# Altium schematic symbol library Microcontrollers.SchLib: 7 symbols
Pins are listed as number, name and electrical type; pins without a type are passive.

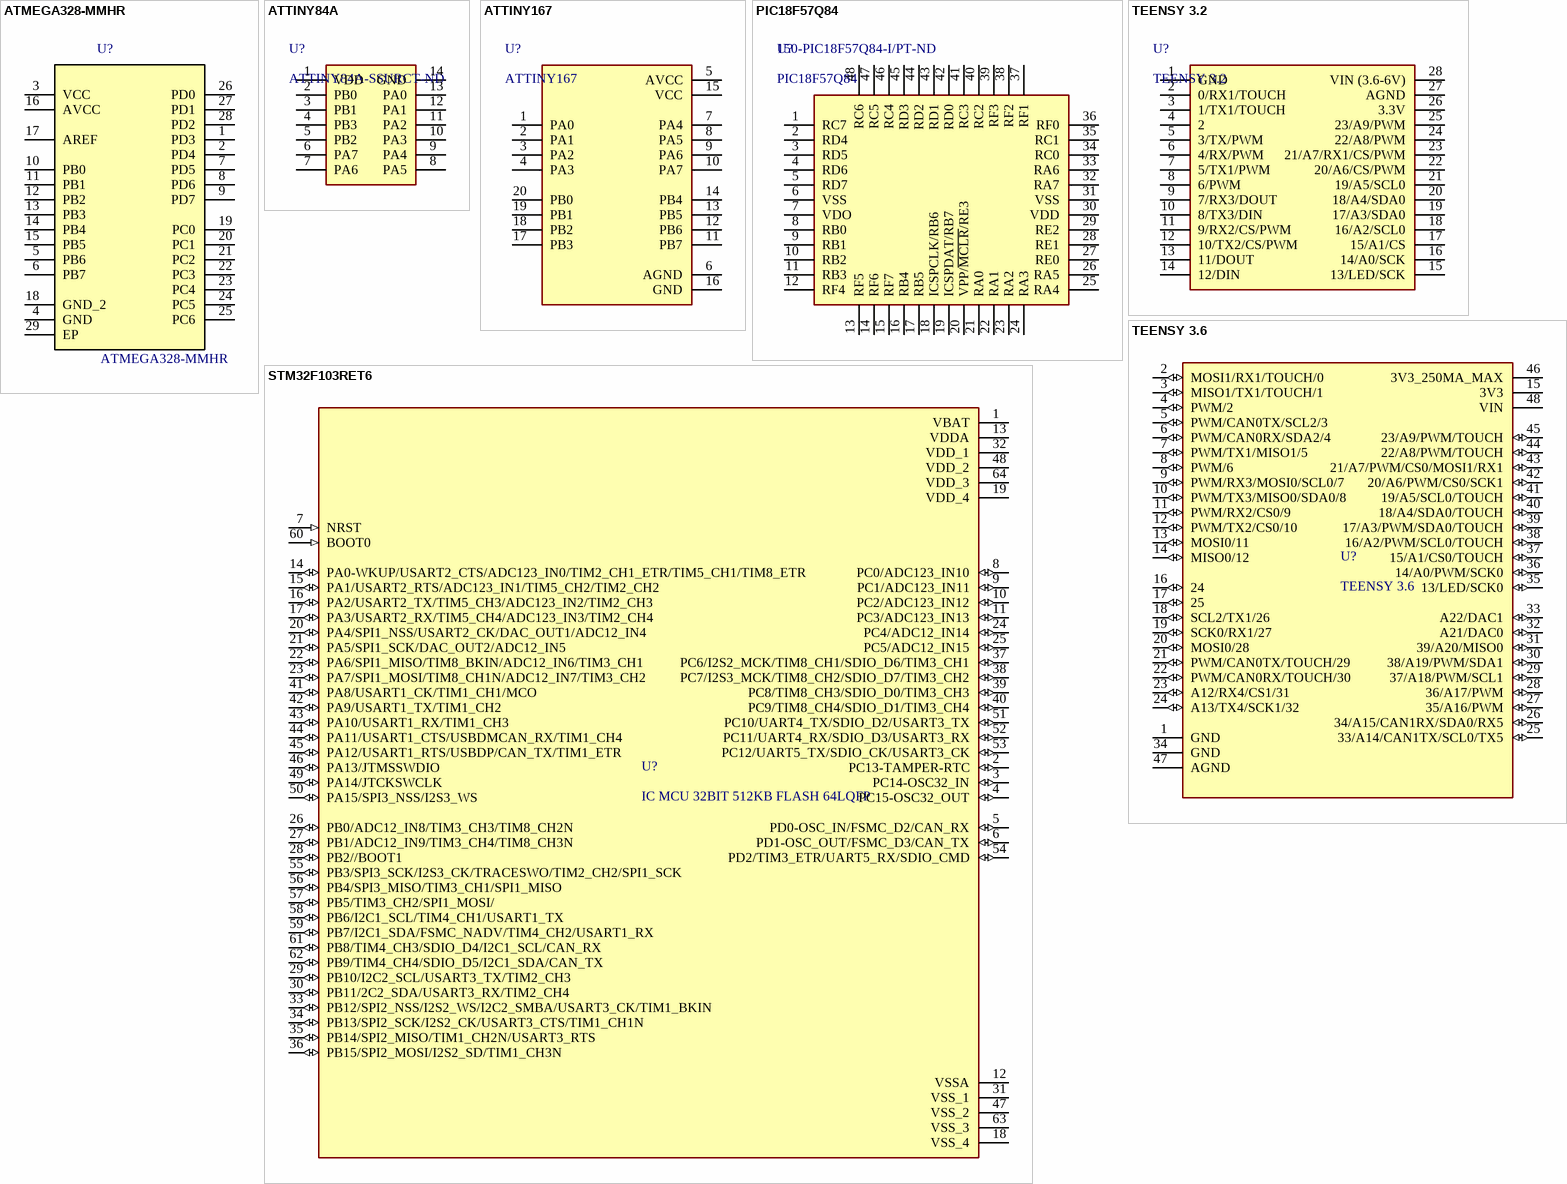
[diagram p0: symbols ATMEGA328-MMHR to TEENSY 3.6]

## ATMEGA328-MMHR
designator U?
IC MCU 8BIT 32KB FLASH 28VQFN; MF: Microchip; MP: ATMEGA328P-PU; SnapEDA_Link: https://www.snapeda.com/parts/ATMEGA328P-PU/Microchip/view-part/?ref=snap; Package: PDIP-28 Microchip; Price: None; Availability: Unavailable; Value: *; Supplier 1: Digi-Key; Supplier Part Number 1: ATMEGA328-MMHRCT-ND
footprint QFN-28_4x4
pins: 1 PD3, 2 PD4, 3 VCC (power), 4 GND, 5 PB6, 6 PB7, 7 PD5, 8 PD6, 9 PD7, 10 PB0, 11 PB1, 12 PB2, 13 PB3, 14 PB4, 15 PB5, 16 AVCC (power), 17 AREF, 18 GND_2, 19 PC0, 20 PC1, 21 PC2, 22 PC3, 23 PC4, 24 PC5, 25 PC6, 26 PD0, 27 PD1, 28 PD2, 29 EP

## ATTINY84A
designator U?, comment ATTINY84A-SSURCT-ND
IC MCU 8BIT 8KB FLASH 20SOIC; ComponentLink1Description: Datasheet; ComponentLink1URL: https://www.digikey.com/product-detail/en/microchip-technology/ATTINY84A-SSUR/ATTINY84A-SSURCT-ND/2774136
footprint SOIC-14_N
pins: 1 VDD, 2 PB0, 3 PB1, 4 PB3, 5 PB2, 6 PA7, 7 PA6, 8 PA5, 9 PA4, 10 PA3, 11 PA2, 12 PA1, 13 PA0, 14 GND

## ATTINY167
designator U?
IC MCU 8BIT 16KB FLASH 20SOIC; ComponentLink1Description: Datasheet; ComponentLink1URL: https://www.digikey.com/product-detail/en/microchip-technology/ATTINY84A-SSUR/ATTINY84A-SSURCT-ND/2774136; Supplier 1: Digi-Key; Supplier Part Number 1: ATTINY167-SU-ND
footprint SOIC-20_N
pins: 1 PA0, 2 PA1, 3 PA2, 4 PA3, 5 AVCC (power), 6 AGND, 7 PA4, 8 PA5, 9 PA6, 10 PA7, 11 PB7, 12 PB6, 13 PB5, 14 PB4, 15 VCC (power), 16 GND, 17 PB3, 18 PB2, 19 PB1, 20 PB0

## PIC18F57Q84
designator U?  Supplier Part Number 1: 150-PIC18F57Q84-I/PT-ND
PIC series Microcontroller IC 8-Bit 64MHz 128KB (64K x 16) FLASH 48-TQFP (7x7); ComponentLink1Description: Datasheet; ComponentLink1URL: https://www.digikey.com/product-detail/en/microchip-technology/ATTINY84A-SSUR/ATTINY84A-SSURCT-ND/2774136; Supplier 1: Digi-Key
footprint QFP50P900X900X120-48N
pins: 1 RC7, 2 RD4, 3 RD5, 4 RD6, 5 RD7, 6 VSS, 7 VDO, 8 RB0, 9 RB1, 10 RB2, 11 RB3, 12 RF4, 13 RF5, 14 RF6, 15 RF7, 16 RB4, 17 RB5, 18 ICSPCLK/RB6, 19 ICSPDAT/RB7, 20 VPP/~{MCLR}/RE3, 21 RA0, 22 RA1, 23 RA2, 24 RA3, 25 RA4, 26 RA5, 27 RE0, 28 RE1, 29 RE2, 30 VDD, 31 VSS, 32 RA7, 33 RA6, 34 RC0, 35 RC1, 36 RF0, 37 RF1, 38 RF2, 39 RF3, 40 RC2, 41 RC3, 42 RD0, 43 RD1, 44 RD2, 45 RD3, 46 RC4, 47 RC5, 48 RC6

## STM32F103RET6
designator U?, comment IC MCU 32BIT 512KB FLASH 64LQFP
ARM® Cortex®-M3 STM32F1 Microcontroller IC 32-Bit 72MHz 512KB (512K x 8) FLASH 64-LQFP (10x10); MP: STM32F103RET6; MF: STMicroelectronics; Availability: Unavailable; Price: None; Value: *; SnapEDA_Link: https://www.snapeda.com/parts/STM32F103RET6/STMicroelectronics/view-part/50007/?ref=snap; Package: LQFP-64 STMicroelectronics; ComponentLink1Description: Datasheet; ComponentLink1URL: https://www.st.com/content/ccc/resource/technical/document/datasheet/59/f6/fa/84/20/4e/4c/59/CD00191185.pdf/files/CD00191185.pdf/jcr:content/translations/en.CD00191185.pdf; Supplier 1: Digi-Key; Supplier Part Number 1: 497-6444-ND
footprint QFP-64_10x10_N
pins: 1 VBAT (power), 2 PC13-TAMPER-RTC (io), 3 PC14-OSC32_IN (io), 4 PC15-OSC32_OUT (io), 5 PD0-OSC_IN/FSMC_D2/CAN_RX (io), 6 PD1-OSC_OUT/FSMC_D3/CAN_TX (io), 7 NRST (in), 8 PC0/ADC123_IN10 (io), 9 PC1/ADC123_IN11 (io), 10 PC2/ADC123_IN12 (io), 11 PC3/ADC123_IN13 (io), 12 VSSA (power), 13 VDDA (power), 14 PA0-WKUP/USART2_CTS/ADC123_IN0/TIM2_CH1_ETR/TIM5_CH1/TIM8_ETR (io), 15 PA1/USART2_RTS/ADC123_IN1/TIM5_CH2/TIM2_CH2 (io), 16 PA2/USART2_TX/TIM5_CH3/ADC123_IN2/TIM2_CH3 (io), 17 PA3/USART2_RX/TIM5_CH4/ADC123_IN3/TIM2_CH4 (io), 18 VSS_4 (power), 19 VDD_4 (power), 20 PA4/SPI1_NSS/USART2_CK/DAC_OUT1/ADC12_IN4 (io), 21 PA5/SPI1_SCK/DAC_OUT2/ADC12_IN5 (io), 22 PA6/SPI1_MISO/TIM8_BKIN/ADC12_IN6/TIM3_CH1 (io), 23 PA7/SPI1_MOSI/TIM8_CH1N/ADC12_IN7/TIM3_CH2 (io), 24 PC4/ADC12_IN14 (io), 25 PC5/ADC12_IN15 (io), 26 PB0/ADC12_IN8/TIM3_CH3/TIM8_CH2N (io), 27 PB1/ADC12_IN9/TIM3_CH4/TIM8_CH3N (io), 28 PB2//BOOT1 (io), 29 PB10/I2C2_SCL/USART3_TX/TIM2_CH3 (io), 30 PB11/2C2_SDA/USART3_RX/TIM2_CH4 (io), 31 VSS_1 (power), 32 VDD_1 (power), 33 PB12/SPI2_NSS/I2S2_WS/I2C2_SMBA/USART3_CK/TIM1_BKIN (io), 34 PB13/SPI2_SCK/I2S2_CK/USART3_CTS/TIM1_CH1N (io), 35 PB14/SPI2_MISO/TIM1_CH2N/USART3_RTS (io), 36 PB15/SPI2_MOSI/I2S2_SD/TIM1_CH3N (io), 37 PC6/I2S2_MCK/TIM8_CH1/SDIO_D6/TIM3_CH1 (io), 38 PC7/I2S3_MCK/TIM8_CH2/SDIO_D7/TIM3_CH2 (io), 39 PC8/TIM8_CH3/SDIO_D0/TIM3_CH3 (io), 40 PC9/TIM8_CH4/SDIO_D1/TIM3_CH4 (io), 41 PA8/USART1_CK/TIM1_CH1/MCO (io), 42 PA9/USART1_TX/TIM1_CH2 (io), 43 PA10/USART1_RX/TIM1_CH3 (io), 44 PA11/USART1_CTS/USBDMCAN_RX/TIM1_CH4 (io), 45 PA12/USART1_RTS/USBDP/CAN_TX/TIM1_ETR (io), 46 PA13/JTMSSWDIO (io), 47 VSS_2 (power), 48 VDD_2 (power), 49 PA14/JTCKSWCLK (io), 50 PA15/SPI3_NSS/I2S3_WS (io), 51 PC10/UART4_TX/SDIO_D2/USART3_TX (io), 52 PC11/UART4_RX/SDIO_D3/USART3_RX (io), 53 PC12/UART5_TX/SDIO_CK/USART3_CK (io), 54 PD2/TIM3_ETR/UART5_RX/SDIO_CMD (io), 55 PB3/SPI3_SCK/I2S3_CK/TRACESWO/TIM2_CH2/SPI1_SCK (io), 56 PB4/SPI3_MISO/TIM3_CH1/SPI1_MISO (io), 57 PB5/TIM3_CH2/SPI1_MOSI/ (io), 58 PB6/I2C1_SCL/TIM4_CH1/USART1_TX (io), 59 PB7/I2C1_SDA/FSMC_NADV/TIM4_CH2/USART1_RX (io), 60 BOOT0 (in), 61 PB8/TIM4_CH3/SDIO_D4/I2C1_SCL/CAN_RX (io), 62 PB9/TIM4_CH4/SDIO_D5/I2C1_SDA/CAN_TX (io), 63 VSS_3 (power), 64 VDD_3 (power)

## TEENSY 3.2
designator U?
K20 Teensy 3.2 series ARM® Cortex®-M4 MCU 32-Bit Embedded Evaluation Board; ComponentLink1Description: Datasheet; ComponentLink1URL: https://www.digikey.com/product-detail/en/microchip-technology/ATTINY84A-SSUR/ATTINY84A-SSURCT-ND/2774136; Supplier 1: Digi-Key; Supplier Part Number 1: 1568-1231-ND
footprint Teensy 3.2
pins: 1 GND, 2 0/RX1/TOUCH, 3 1/TX1/TOUCH, 4 2, 5 3/TX/PWM, 6 4/RX/PWM, 7 5/TX1/PWM, 8 6/PWM, 9 7/RX3/DOUT, 10 8/TX3/DIN, 11 9/RX2/CS/PWM, 12 10/TX2/CS/PWM, 13 11/DOUT, 14 12/DIN, 15 13/LED/SCK, 16 14/A0/SCK, 17 15/A1/CS, 18 16/A2/SCL0, 19 17/A3/SDA0, 20 18/A4/SDA0, 21 19/A5/SCL0, 22 20/A6/CS/PWM, 23 21/A7/RX1/CS/PWM, 24 22/A8/PWM, 25 23/A9/PWM, 26 3.3V, 27 AGND, 28 VIN (3.6-6V)

## TEENSY 3.6
designator U?
K66 Teensy 3.6 with Headers Kinetis ARMÂ® CortexÂ®-M4 MCU 32-Bit Embedded Evaluation Board; MF: {'manufacturer': u'SparkFun Electronics'}; MP: DEV-14058; Value: *; Package: None; Price: None; Availability: Unavailable
footprint Teensy 3.6
pins: 1 GND (power), 2 MOSI1/RX1/TOUCH/0 (io), 3 MISO1/TX1/TOUCH/1 (io), 4 PWM/2 (io), 5 PWM/CAN0TX/SCL2/3 (io), 6 PWM/CAN0RX/SDA2/4 (io), 7 PWM/TX1/MISO1/5 (io), 8 PWM/6 (io), 9 PWM/RX3/MOSI0/SCL0/7 (io), 10 PWM/TX3/MISO0/SDA0/8 (io), 11 PWM/RX2/CS0/9 (io), 12 PWM/TX2/CS0/10 (io), 13 MOSI0/11 (io), 14 MISO0/12 (io), 15 3V3 (power), 16 24 (io), 17 25 (io), 18 SCL2/TX1/26 (io), 19 SCK0/RX1/27 (io), 20 MOSI0/28 (io), 21 PWM/CAN0TX/TOUCH/29 (io), 22 PWM/CAN0RX/TOUCH/30 (io), 23 A12/RX4/CS1/31 (io), 24 A13/TX4/SCK1/32 (io), 25 33/A14/CAN1TX/SCL0/TX5 (io), 26 34/A15/CAN1RX/SDA0/RX5 (io), 27 35/A16/PWM (io), 28 36/A17/PWM (io), 29 37/A18/PWM/SCL1 (io), 30 38/A19/PWM/SDA1 (io), 31 39/A20/MISO0 (io), 32 A21/DAC0 (io), 33 A22/DAC1 (io), 34 GND (power), 35 13/LED/SCK0 (io), 36 14/A0/PWM/SCK0 (io), 37 15/A1/CS0/TOUCH (io), 38 16/A2/PWM/SCL0/TOUCH (io), 39 17/A3/PWM/SDA0/TOUCH (io), 40 18/A4/SDA0/TOUCH (io), 41 19/A5/SCL0/TOUCH (io), 42 20/A6/PWM/CS0/SCK1 (io), 43 21/A7/PWM/CS0/MOSI1/RX1 (io), 44 22/A8/PWM/TOUCH (io), 45 23/A9/PWM/TOUCH (io), 46 3V3_250MA_MAX (power), 47 AGND (power), 48 VIN (power)